# EAGLE library part DS07E (library SW)
DIL/CODE SWITCH
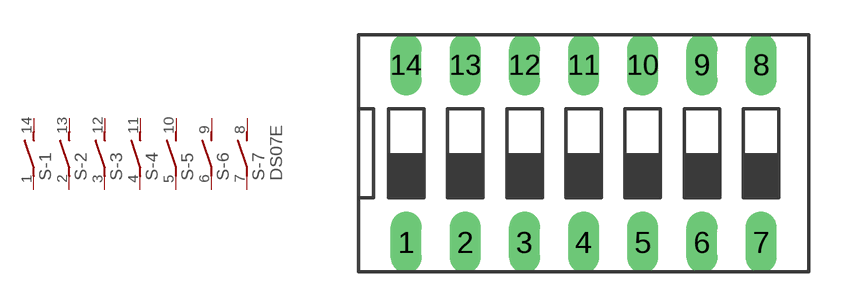
[diagram p17: symbol with the pads of DS-07; footprint DS-07]

Designator prefix S; gates -1=S -2=S -3=S -4=S -5=S -6=S -7=S+V

## DS07E (MPN: MCDS07; OC_FARNELL: 1255226; OC_NEWARK: 26M1106)  [DS-07]
1  -1:1  pas
2  -2:1  pas
3  -3:1  pas
4  -4:1  pas
5  -5:1  pas
6  -6:1  pas
7  -7:1  pas
8  -7:2  pas
9  -6:2  pas
10  -5:2  pas
11  -4:2  pas
12  -3:2  pas
13  -2:2  pas
14  -1:2  pas

## Footprint DS-07 (pad centres in mm)
DIL/CODE SWITCH Mors distributor Buerklin, 17G560
drill 0.813 long: 1 -7.62,-3.81; 2 -5.08,-3.81; 3 -2.54,-3.81; 4 0,-3.81; 5 2.54,-3.81; 6 5.08,-3.81; 7 7.62,-3.81; 8 7.62,3.81; 9 5.08,3.81; 10 2.54,3.81; 11 0,3.81; 12 -2.54,3.81; 13 -5.08,3.81; 14 -7.62,3.81